# EAGLE library part L76 (library gps_receivers)
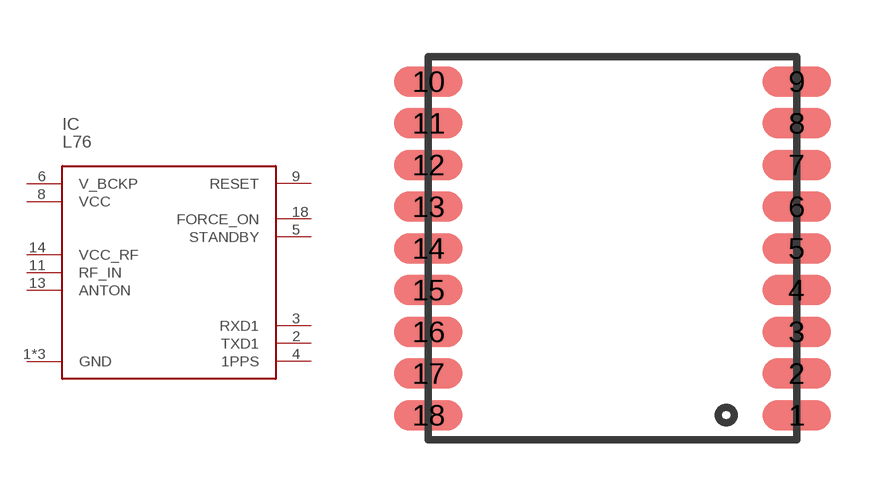
[diagram p0: symbol with the pads of L76; footprint L76]

Designator prefix IC

## L76  [L76]
1  GND
2  TXD1
3  RXD1
4  1PPS
5  STANDBY
6  V_BCKP
8  VCC
9  RESET
10  GND
11  RF_IN
12  GND
13  ANTON
14  VCC_RF
18  FORCE_ON

## Footprint L76 (pad centres in mm)
smd 1.8 x 0.8: 1 4.85,-4.4; 2 4.85,-3.3; 3 4.85,-2.2; 4 4.85,-1.1; 5 4.85,0; 6 4.85,1.1; 7 4.85,2.2; 8 4.85,3.3; 9 4.85,4.4; 10 -4.85,4.4; 11 -4.85,3.3; 12 -4.85,2.2; 13 -4.85,1.1; 14 -4.85,0; 15 -4.85,-1.1; 16 -4.85,-2.2; 17 -4.85,-3.3; 18 -4.85,-4.4